# Altium footprint library Diodes.PcbLib: 20 footprints (part 2 of 2)
Each footprint in its own frame and in the unit in brackets; x right, y up, seen from the top. Pads: shape width x height; smd on the part's side, far side on the other; paste and mask are expansions set on the pad; w line width, h text height; cw(c..) or ccw(c..) is an arc to the next point about the centre after c.
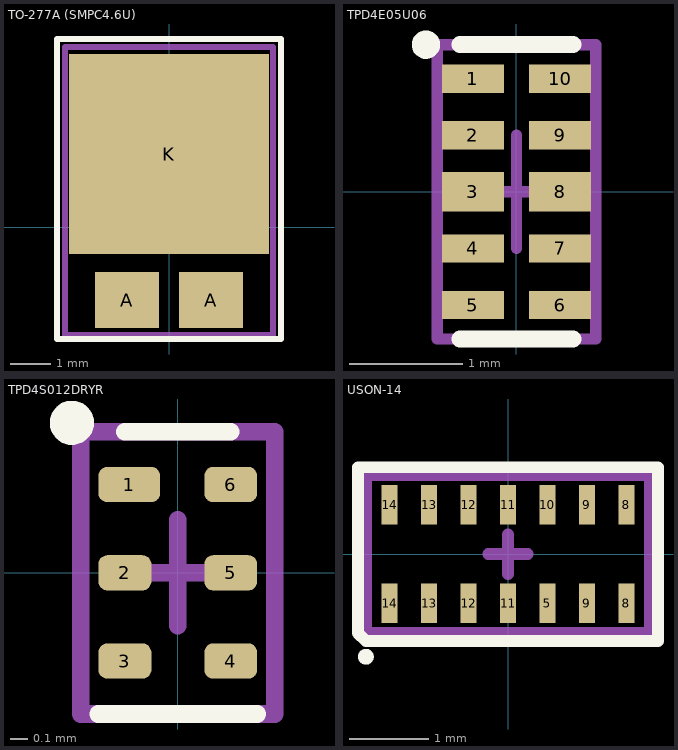
[diagram p1: the footprints below, top view; thin cyan lines are the x and y axes]

## TO-277A (SMPC4.6U) [mm]
height 1.2
pads (3):
  rect 1.6x1.4 smd: A(-1.05,-1.825) A(1.05,-1.825)
  rect 5x5 smd: K(0,1.825)
Top Overlay:
  lines w0.15: -2.8,-2.8 2.8,-2.8 2.8,4.7 -2.8,4.7 -2.8,-2.8
Mechanical 13:
  lines w0.15: -0.5,0 0.5,0 ; 0,-0.5 0,0.5 ; -2.6,-2.7 -2.6,4.5 2.6,4.5 2.6,-2.7 -2.6,-2.7
3D body "User Library-TO-277A(SMPC).STEP": height 1.2, standoff 0, extent -2.375,-2.45 2.375,4.2

## TPD4E05U06 [mm] "2.5x1x0.5 mm"
height 0.5
pads (10):
  rect 0.55x0.25 smd mask+0.05: 1(-0.385,1) 2(-0.385,0.5) 4(-0.385,-0.5) 5(-0.385,-1) 6(0.385,-1) 7(0.385,-0.5) 9(0.385,0.5) 10(0.385,1)
  rect 0.55x0.35 smd mask+0.05: 3(-0.385,0) 8(0.385,0)
Top Overlay:
  circle w0.15: c-0.8,1.3 r0.05
  lines w0.15: -0.5,-1.3 0.5,-1.3 ; -0.5,1.3 0.5,1.3
Mechanical 15:
  lines w0.1: -0.5,0 0.5,0 ; 0,-0.5 0,0.5 ; -0.7,-1.3 0.7,-1.3 0.7,1.3 -0.7,1.3 -0.7,-1.3
3D body "DQA0010A.stp": height 0.55, standoff 0, extent -0.5,-1.25 0.5,1.25

## TPD4S012DRYR [mm]
pads (6):
  rrect50% 0.35x0.2 smd mask+0.05: 1(-0.275,0.5)
  rrect50% 0.3x0.2 smd mask+0.05: 2(-0.3,0) 3(-0.3,-0.5) 4(0.3,-0.5) 5(0.3,0) 6(0.3,0.5)
Top Overlay:
  circle w0.15: c-0.6,0.85 r0.05
  lines w0.1: -0.45,-0.8 0.45,-0.8 ; -0.3,0.8 0.3,0.8
Mechanical 15:
  lines w0.1: -0.3,0 0.3,0 ; 0,-0.3 0,0.3 ; -0.55,-0.8 -0.55,0.8 0.55,0.8 0.55,-0.8 -0.55,-0.8
3D body "TPD4S012DRYR.step": height 0.6, standoff 0, extent -0.5,-0.725 0.5,0.725

## USON-14 [mm]
pads (14):
  rect 0.2x0.5 smd mask+0.07: 5(0.5,-0.625) 8(1.5,-0.625) 8(1.5,0.625) 9(1,-0.625) 9(1,0.625) 10(0.5,0.625) 11(0,-0.625) 11(0,0.625) 12(-0.5,-0.625) 12(-0.5,0.625) 13(-1,-0.625) 13(-1,0.625) 14(-1.5,-0.625) 14(-1.5,0.625)
Top Overlay:
  circle w0.1: c-1.8,-1.3 r0.05
  lines w0.15: -1.9,-1 -1.9,1.1 1.9,1.1 1.9,-1.1 -1.8,-1.1 -1.9,-1
Mechanical 15:
  lines w0.15: -0.25,0 0.25,0 ; 0,-0.25 0,0.25 ; -1.8,-1 1.8,-1 1.8,1 -1.8,1 -1.8,-1
3D body "User Library-USON-14_RVZ14.step": height 0.55, standoff 0, extent -1.75,-0.685 1.75,0.685